# Altium schematic symbol library Radxa ROCK3 CM.SchLib: 1 symbol
Pins are listed as number, name and electrical type; pins without a type are passive.

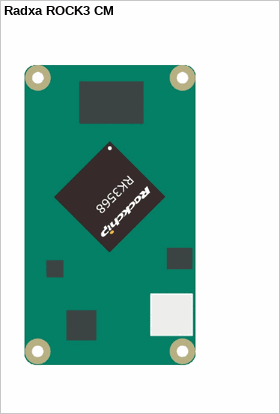
[diagram p0: symbol Radxa ROCK3 CM]

## Radxa ROCK3 CM
designator M?  (mechanical)